# EAGLE library part UF1050 (library IC)
CSR - IEEE 802.11b/g Single-chip Radio, Modem, MAC
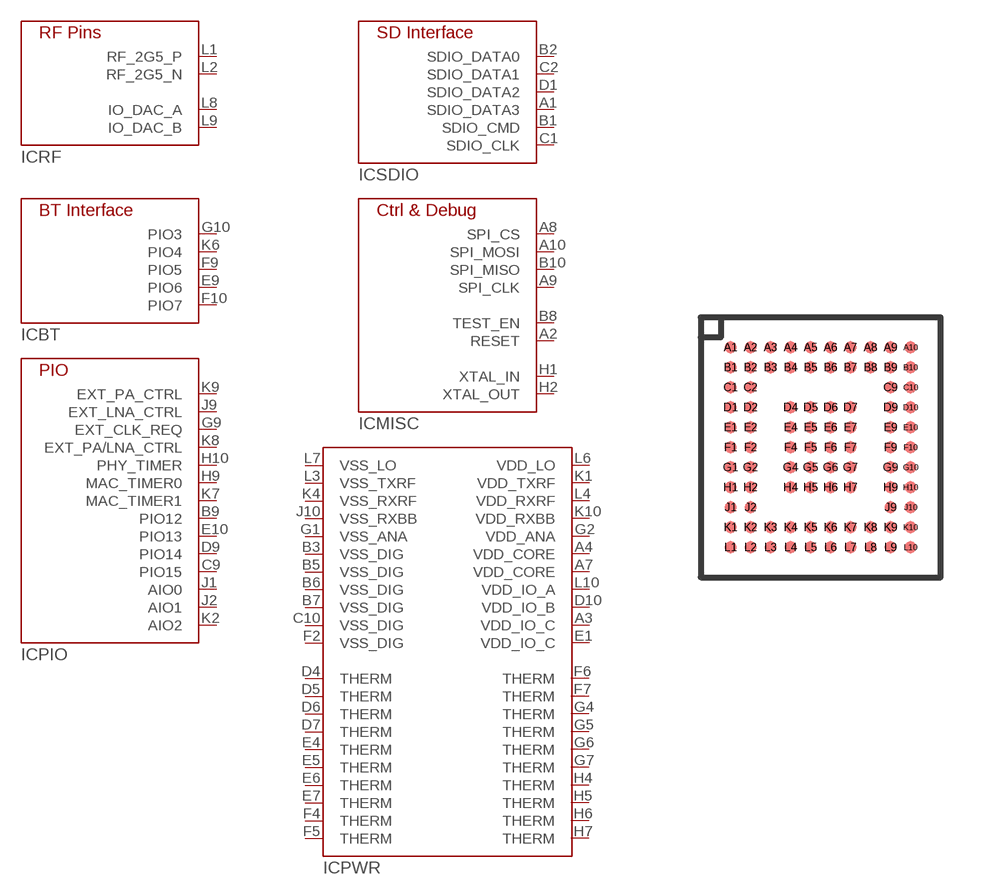
[diagram p165: symbol with the pads of WLCSP-88; footprint WLCSP-88]

Designator prefix IC; gates RF=UF1050-RF SDIO=UF1050-SDIO BT=UF1050-BT MISC=UF1050-MISC PIO=UF1050-PIO PWR=UF1050-PWR

## UF1050  [WLCSP-88]
A1  SDIO:SDIO_DATA3
A2  MISC:RESET
A3  PWR:VDD_IO_C
A4  PWR:VDD_CORE
A7  PWR:VDD_CORE
A8  MISC:SPI_CS
A9  MISC:SPI_CLK
A10  MISC:SPI_MOSI
B1  SDIO:SDIO_CMD
B2  SDIO:SDIO_DATA0
B3  PWR:VSS_DIG
B5  PWR:VSS_DIG
B6  PWR:VSS_DIG
B7  PWR:VSS_DIG
B8  MISC:TEST_EN
B9  PIO:PIO12
B10  MISC:SPI_MISO
C1  SDIO:SDIO_CLK
C2  SDIO:SDIO_DATA1
C9  PIO:PIO15
C10  PWR:VSS_DIG
D1  SDIO:SDIO_DATA2
D4  PWR:THERM
D5  PWR:THERM
D6  PWR:THERM
D7  PWR:THERM
D9  PIO:PIO14
D10  PWR:VDD_IO_B
E1  PWR:VDD_IO_C
E4  PWR:THERM
E5  PWR:THERM
E6  PWR:THERM
E7  PWR:THERM
E9  BT:PIO6
E10  PIO:PIO13
F2  PWR:VSS_DIG
F4  PWR:THERM
F5  PWR:THERM
F6  PWR:THERM
F7  PWR:THERM
F9  BT:PIO5
F10  BT:PIO7
G1  PWR:VSS_ANA
G2  PWR:VDD_ANA
G4  PWR:THERM
G5  PWR:THERM
G6  PWR:THERM
G7  PWR:THERM
G9  PIO:EXT_CLK_REQ
G10  BT:PIO3
H1  MISC:XTAL_IN
H2  MISC:XTAL_OUT
H4  PWR:THERM
H5  PWR:THERM
H6  PWR:THERM
H7  PWR:THERM
H9  PIO:MAC_TIMER0
H10  PIO:PHY_TIMER
J1  PIO:AIO0
J2  PIO:AIO1
J9  PIO:EXT_LNA_CTRL
J10  PWR:VSS_RXBB
K1  PWR:VDD_TXRF
K2  PIO:AIO2
K4  PWR:VSS_RXRF
K6  BT:PIO4
K7  PIO:MAC_TIMER1
K8  PIO:EXT_PA/LNA_CTRL
K9  PIO:EXT_PA_CTRL
K10  PWR:VDD_RXBB
L1  RF:RF_2G5_P
L2  RF:RF_2G5_N
L3  PWR:VSS_TXRF
L4  PWR:VDD_RXRF
L6  PWR:VDD_LO
L7  PWR:VSS_LO
L8  RF:IO_DAC_A
L9  RF:IO_DAC_B
L10  PWR:VDD_IO_A

## Footprint WLCSP-88 (pad centres in mm)
CSR 88-Ball Wafer Level Chip Scale (WLCSP)
smd 0.3 x 0.3: A1 -2.25,2.5; A2 -1.75,2.5; A3 -1.25,2.5; A4 -0.75,2.5; A5 -0.25,2.5; A6 0.25,2.5; A7 0.75,2.5; A8 1.25,2.5; A9 1.75,2.5; A10 2.25,2.5; B1 -2.25,2; B2 -1.75,2; B3 -1.25,2; B4 -0.75,2; B5 -0.25,2; B6 0.25,2; B7 0.75,2; B8 1.25,2; B9 1.75,2; B10 2.25,2; C1 -2.25,1.5; C2 -1.75,1.5; C9 1.75,1.5; C10 2.25,1.5; D1 -2.25,1; D2 -1.75,1; D4 -0.75,1; D5 -0.25,1; D6 0.25,1; D7 0.75,1; D9 1.75,1; D10 2.25,1; E1 -2.25,0.5; E2 -1.75,0.5; E4 -0.75,0.5; E5 -0.25,0.5; E6 0.25,0.5; E7 0.75,0.5; E9 1.75,0.5; E10 2.25,0.5; F1 -2.25,0; F2 -1.75,0; F4 -0.75,0; F5 -0.25,0; F6 0.25,0; F7 0.75,0; F9 1.75,0; F10 2.25,0; G1 -2.25,-0.5; G2 -1.75,-0.5; G4 -0.75,-0.5; G5 -0.25,-0.5; G6 0.25,-0.5; G7 0.75,-0.5; G9 1.75,-0.5; G10 2.25,-0.5; H1 -2.25,-1; H2 -1.75,-1; H4 -0.75,-1; H5 -0.25,-1; H6 0.25,-1; H7 0.75,-1; H9 1.75,-1; H10 2.25,-1; J1 -2.25,-1.5; J2 -1.75,-1.5; J9 1.75,-1.5; J10 2.25,-1.5; K1 -2.25,-2; K2 -1.75,-2; K3 -1.25,-2; K4 -0.75,-2; K5 -0.25,-2; K6 0.25,-2; K7 0.75,-2; K8 1.25,-2; K9 1.75,-2; K10 2.25,-2; L1 -2.25,-2.5; L2 -1.75,-2.5; L3 -1.25,-2.5; L4 -0.75,-2.5; L5 -0.25,-2.5; L6 0.25,-2.5; L7 0.75,-2.5; L8 1.25,-2.5; L9 1.75,-2.5; L10 2.25,-2.5